# EAGLE library part B7B-XH-A(LF)(SN) (library Header_R_ESP32)
CONN HEADER VERT 7POS 2.5MM Manufacturer's datasheet <http://www.jst-mfg.com/product/pdf/eng/eXH.pdf>
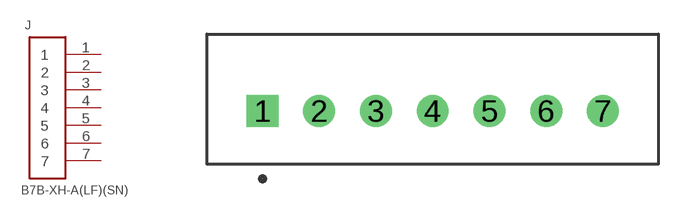
[diagram p27: symbol with the pads of B7B-XH-A(LF)(SN); footprint B7B-XH-A(LF)(SN)]

Designator prefix J

## B7B-XH-A(LF)(SN) (CREATED_BY: PCBLayout.com; DIGIKEY_PARTNO: 455-2252-ND; MANUFACTURER: JST Sales America Inc.; MPN: B7B-XH-A(LF)(SN))  [B7B-XH-A(LF)(SN)]
1  1  pas
2  2  pas
3  3  pas
4  4  pas
5  5  pas
6  6  pas
7  7  pas

## Footprint B7B-XH-A(LF)(SN) (pad centres in mm)
drill 0.9 square: 1 -7.5,0
drill 0.9: 2 -5,0; 3 -2.5,0; 4 0,0; 5 2.5,0; 6 5,0; 7 7.5,0